# Altium footprint library PinHeader.PcbLib: 118 footprints (part 5 of 8)
Each footprint in its own frame and in the unit in brackets; x right, y up, seen from the top. Pads: shape width x height; smd on the part's side, far side on the other; paste and mask are expansions set on the pad; w line width, h text height; cw(c..) or ccw(c..) is an arc to the next point about the centre after c.
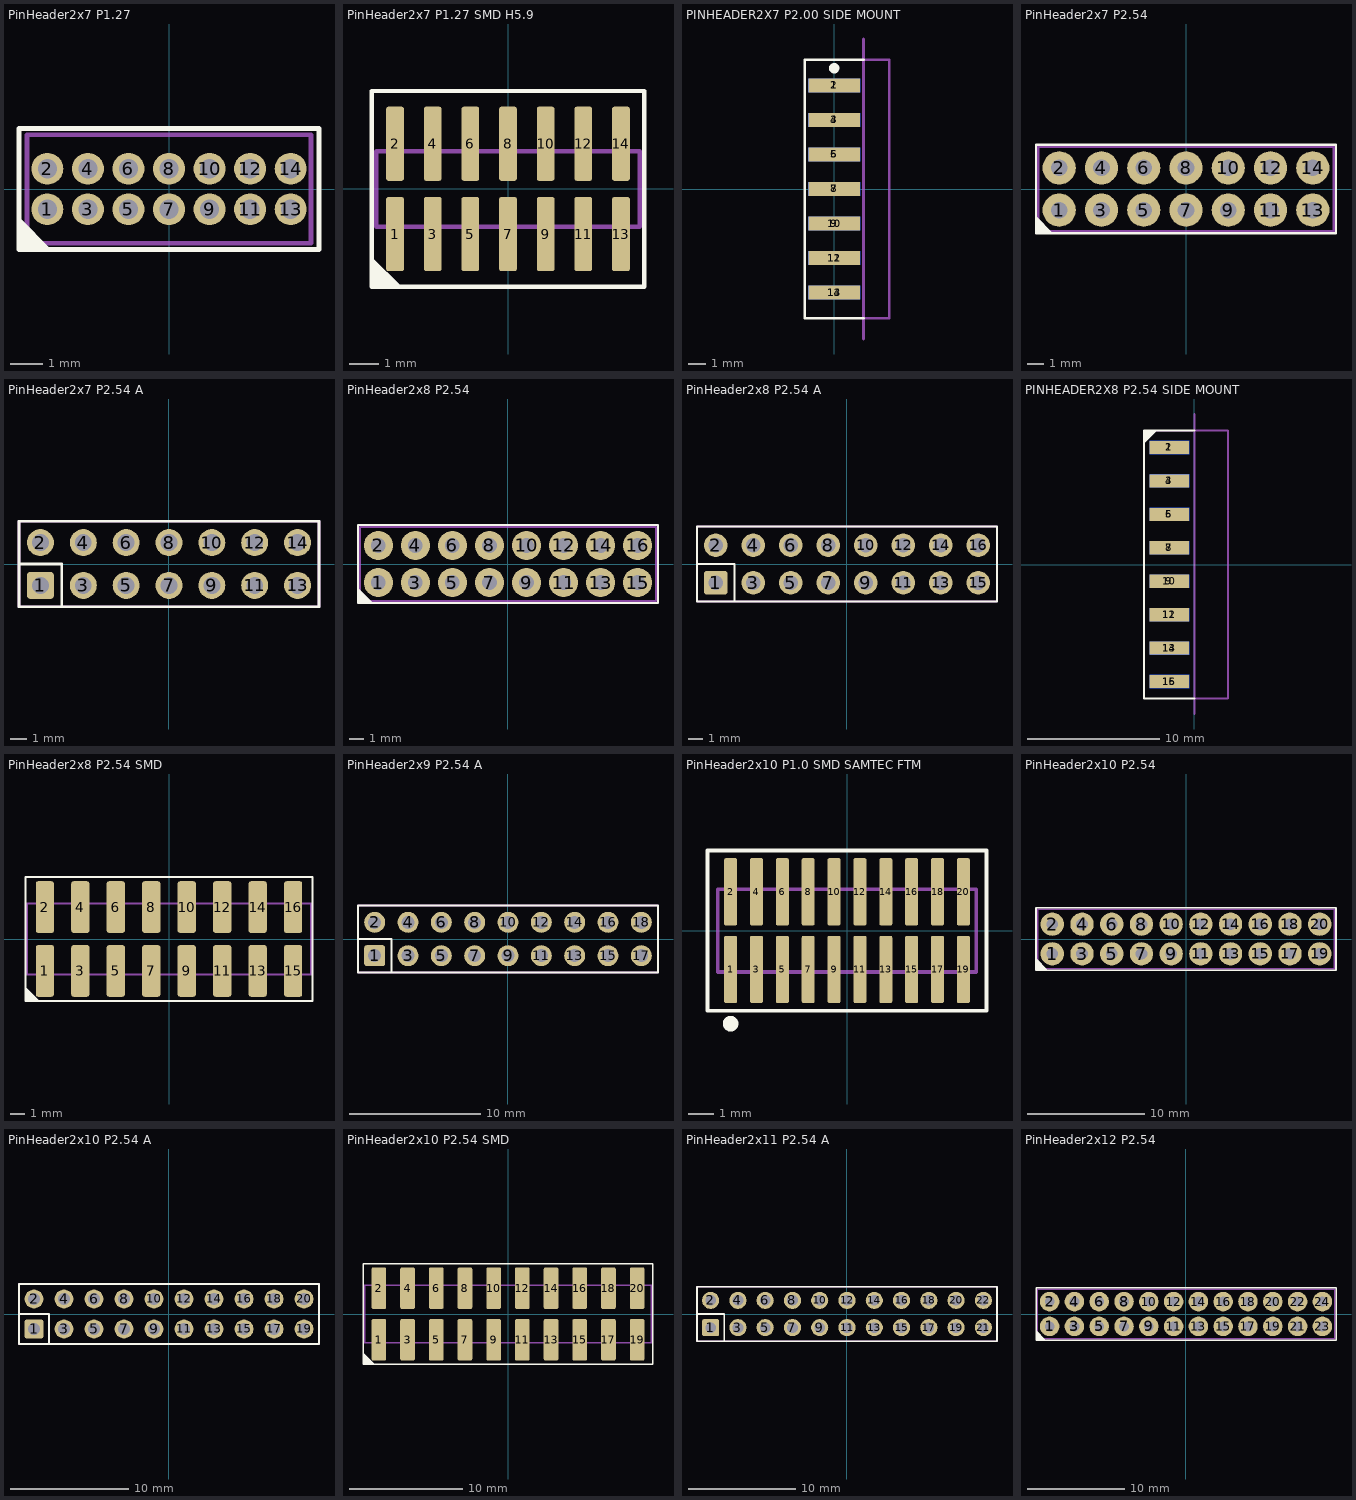
[diagram p4: the footprints below, top view; thin cyan lines are the x and y axes]

## PinHeader2x7 P1.27 [mm] "Plug connector"
height 5.3
pads (14):
  round 1 hole 0.6: 1(-3.81,-0.635) 2(-3.81,0.635) 3(-2.54,-0.635) 4(-2.54,0.635) 5(-1.27,-0.635) 6(-1.27,0.635) 7(0,-0.635) 8(0,0.635) 9(1.27,-0.635) 10(1.27,0.635) 11(2.54,-0.635) 12(2.54,0.635) 13(3.81,-0.635) 14(3.81,0.635)
Top Overlay:
  region: -4.7,-1.9 -4.7,-0.884 -3.684,-1.9
  lines w0.15: -4.6,-1.9 -4.635,-1.9 -4.7,-1.9 ; -4.7,-1.9 -4.7,1.5 -4.7,1.9 4.7,1.9 4.7,-1.9 -4.7,-1.9
Mechanical 13:
  lines w0.15: -4.445,-1.7 4.445,-1.7 4.445,1.7 -4.445,1.7 -4.445,-1.7
3D body "62201421121 (rev1).stp": height 5.31, standoff -2.29, extent -4.445,-1.7 4.445,1.7

## PinHeader2x7 P1.27 SMD H5.9 [mm] "Plug connector"
height 5.9
pads (14):
  rrect25% 0.6x2.5 smd: 1(-3.81,-1.524) 2(-3.81,1.524) 3(-2.54,-1.524) 4(-2.54,1.524) 5(-1.27,-1.524) 6(-1.27,1.524) 7(0,-1.524) 8(0,1.524) 9(1.27,-1.524) 10(1.27,1.524) 11(2.54,-1.524) 12(2.54,1.524) 13(3.81,-1.524) 14(3.81,1.524)
Top Overlay:
  region: -4.608,-3.308 -4.608,-2.292 -3.592,-3.308
  lines w0.15: -4.6,-3.302 -4.6,3.302 4.6,3.302 4.6,-3.302 -4.6,-3.302
Mechanical 13:
  lines w0.15: -4.445,-1.27 4.445,-1.27 4.445,1.27 -4.445,1.27 -4.445,-1.27
3D body: height 0.4, standoff 0, extent 3.61,0.435 4.01,2.54
3D body: height 5.9, standoff 0, extent 3.61,0.435 4.01,0.835
3D body: height 0.4, standoff 0, extent -4.01,0.435 -3.61,2.54
3D body: height 5.9, standoff 0, extent -4.01,0.435 -3.61,0.835
3D body: height 0.4, standoff 0, extent 3.61,-2.54 4.01,-0.435
3D body: height 5.9, standoff 0, extent 3.61,-0.835 4.01,-0.435
3D body: height 0.4, standoff 0, extent -4.01,-2.54 -3.61,-0.435
3D body: height 5.9, standoff 0, extent -4.01,-0.835 -3.61,-0.435
3D body: height 5.9, standoff 0, extent -2.74,0.435 -2.34,0.835
3D body: height 0.4, standoff 0, extent -2.74,0.435 -2.34,2.54
3D body: height 5.9, standoff 0, extent -1.47,0.435 -1.07,0.835
3D body: height 0.4, standoff 0, extent -1.47,0.435 -1.07,2.54
3D body: height 5.9, standoff 0, extent -0.2,0.435 0.2,0.835
3D body: height 0.4, standoff 0, extent -0.2,0.435 0.2,2.54
3D body: height 5.9, standoff 0, extent 1.07,0.435 1.47,0.835
3D body: height 0.4, standoff 0, extent 1.07,0.435 1.47,2.54
3D body: height 5.9, standoff 0, extent 2.34,0.435 2.74,0.835
3D body: height 0.4, standoff 0, extent 2.34,0.435 2.74,2.54
3D body: height 5.9, standoff 0, extent 2.34,-0.835 2.74,-0.435
3D body: height 0.4, standoff 0, extent 2.34,-2.54 2.74,-0.435
3D body: height 5.9, standoff 0, extent 1.07,-0.835 1.47,-0.435
3D body: height 0.4, standoff 0, extent 1.07,-2.54 1.47,-0.435
3D body: height 5.9, standoff 0, extent -2.74,-0.835 -2.34,-0.435
3D body: height 0.4, standoff 0, extent -2.74,-2.54 -2.34,-0.435
3D body: height 5.9, standoff 0, extent -1.47,-0.835 -1.07,-0.435
3D body: height 0.4, standoff 0, extent -1.47,-2.54 -1.07,-0.435
3D body: height 0.4, standoff 0, extent -0.2,-2.54 0.2,-0.435
3D body: height 5.9, standoff 0, extent -0.2,-0.835 0.2,-0.435
3D body: height 2.92, standoff 0.4, extent -4.445,-1.27 4.445,1.27

## PINHEADER2X7 P2.00 SIDE MOUNT [mm] "Plug connector Mounted on PCB side"
height 2
pads (14):
  rect 3x0.8 smd: 1(0,6) 3(0,4) 5(0,2) 7(0,0) 9(0,-2) 11(0,-4) 13(0,-6)
  rect 3x0.8 smd far side: 2(0,6) 4(0,4) 6(0,2) 8(0,0) 10(0,-2) 12(0,-4) 14(0,-6)
Top Overlay:
  circle w0.3: c0,7 r0.15
  lines w0.152: 1.7,-7.5 -1.71,-7.5 -1.71,7.5 1.7,7.5
Bottom Overlay:
  lines w0.152: 1.7,-7.5 -1.71,-7.5 -1.71,7.5 1.7,7.5
Mechanical 1:
  lines w0.15: 1.7,-8.694 1.7,-7.5 ; 1.7,7.5 1.7,8.694
Mechanical 13:
  lines w0.15: 1.7,-7.5 1.7,7.5 3.2,7.5 3.2,-7.5 1.7,-7.5
Mechanical 14:
  lines w0.15: 1.7,-7.5 3.2,-7.5 3.2,7.5 1.7,7.5 1.7,-7.5
Mechanical 15:
  lines w0.05: 1.7,-7.5 -1.71,-7.5 -1.71,7.5 1.7,7.5
3D body: height 0.5, standoff 0, extent -1.3,-6.259 6.7,-5.741
3D body: height 0.5, standoff 0, extent -1.3,-4.259 6.7,-3.741
3D body: height 1.75, standoff -1, extent 1.7,-7.5 3.2,7.5
3D body: height 0.5, standoff 0, extent -1.3,5.741 6.7,6.259
3D body: height 0.5, standoff 0, extent -1.3,3.741 6.7,4.259
3D body: height 0.5, standoff 0, extent -1.3,1.741 6.7,2.259
3D body: height 0.5, standoff 0, extent -1.3,-0.259 6.7,0.259
3D body: height 0.5, standoff 0, extent -1.3,-2.259 6.7,-1.741
3D body: height 0.5, standoff 0, extent -1.3,-6.259 6.7,-5.741
3D body: height 0.5, standoff 0, extent -1.3,-4.259 6.7,-3.741
3D body: height 1.75, standoff -1, extent 1.7,-7.5 3.2,7.5
3D body: height 0.5, standoff 0, extent -1.3,5.741 6.7,6.259
3D body: height 0.5, standoff 0, extent -1.3,3.741 6.7,4.259
3D body: height 0.5, standoff 0, extent -1.3,1.741 6.7,2.259
3D body: height 0.5, standoff 0, extent -1.3,-0.259 6.7,0.259
3D body: height 0.5, standoff 0, extent -1.3,-2.259 6.7,-1.741

## PinHeader2x7 P2.54 [mm] "Plug connector"
height 8.5
pads (14):
  round 2 hole 1: 1(-7.62,-1.27) 2(-7.62,1.27) 3(-5.08,-1.27) 4(-5.08,1.27) 5(-2.54,-1.27) 6(-2.54,1.27) 7(0,-1.27) 8(0,1.27) 9(2.54,-1.27) 10(2.54,1.27) 11(5.08,-1.27) 12(5.08,1.27) 13(7.62,-1.27) 14(7.62,1.27)
Top Overlay:
  region: -9.017,-2.667 -9.017,-1.651 -8.001,-2.667
  lines w0.15: -9.017,-2.667 9.017,-2.667 9.017,2.667 -9.017,2.667 -9.017,-2.667
Mechanical 13:
  lines w0.15: -8.89,-2.54 -8.89,2.54 8.89,2.54 8.89,-2.54 -8.89,-2.54
3D body: height 8.5, standoff -2.5, extent 7.24,-1.65 8.001,-0.89
3D body: height 8.5, standoff -2.5, extent -8,-1.65 -7.24,-0.89
3D body: height 8.5, standoff -2.5, extent 2.16,-1.65 2.921,-0.89
3D body: height 8.5, standoff -2.5, extent -5.46,-1.65 -4.7,-0.89
3D body: height 8.5, standoff -2.5, extent -2.92,-1.65 -2.159,-0.89
3D body: height 8.5, standoff -2.5, extent -0.38,-1.65 0.381,-0.89
3D body: height 8.5, standoff -2.5, extent 4.7,-1.65 5.461,-0.89
3D body: height 8.5, standoff -2.5, extent 4.7,0.89 5.461,1.65
3D body: height 8.5, standoff -2.5, extent -0.38,0.89 0.381,1.65
3D body: height 8.5, standoff -2.5, extent -2.92,0.89 -2.159,1.65
3D body: height 8.5, standoff -2.5, extent -5.46,0.89 -4.7,1.65
3D body: height 8.5, standoff -2.5, extent 2.16,0.89 2.921,1.65
3D body: height 8.5, standoff -2.5, extent -8,0.89 -7.24,1.65
3D body: height 2.54, standoff 0, extent -8.89,-2.54 8.89,2.54
3D body: height 8.5, standoff -2.5, extent 7.24,0.89 8.001,1.65

## PinHeader2x7 P2.54 A [mm] "Plug connector"
height 8.5
pads (14):
  rrect25% 1.6x1.6 hole 1: 1(-7.62,-1.27)
  round 1.6 hole 1: 2(-7.62,1.27) 3(-5.08,-1.27) 4(-5.08,1.27) 5(-2.54,-1.27) 6(-2.54,1.27) 7(0,-1.27) 8(0,1.27) 9(2.54,-1.27) 10(2.54,1.27) 11(5.08,-1.27) 12(5.08,1.27) 13(7.62,-1.27) 14(7.62,1.27)
Top Overlay:
  lines w0.15: -8.89,0 -6.35,0 -6.35,-2.54 ; -8.89,-2.54 -8.89,2.54 8.89,2.54 8.89,-2.54 -8.89,-2.54
Mechanical 13:
  lines w0.15: -8.89,-2.54 8.89,-2.54 8.89,2.54 -8.89,2.54 -8.89,-2.54
3D body: height 2.5, standoff 0.1, extent -8.89,-2.54 8.89,2.54
3D body: height 8.5, standoff 2.6, extent -7.938,-1.587 7.938,1.587

## PinHeader2x8 P2.54 [mm] "Plug connector"
height 8.5
pads (16):
  round 2 hole 1: 1(-8.89,-1.27) 2(-8.89,1.27) 3(-6.35,-1.27) 4(-6.35,1.27) 5(-3.81,-1.27) 6(-3.81,1.27) 7(-1.27,-1.27) 8(-1.27,1.27) 9(1.27,-1.27) 10(1.27,1.27) 11(3.81,-1.27) 12(3.81,1.27) 13(6.35,-1.27) 14(6.35,1.27) 15(8.89,-1.27) 16(8.89,1.27)
Top Overlay:
  region: -10.287,-2.667 -10.287,-1.651 -9.271,-2.667
  lines w0.15: -10.287,-2.667 10.287,-2.667 10.287,2.667 -10.287,2.667 -10.287,-2.667
Mechanical 13:
  lines w0.15: -10.16,-2.54 -10.16,2.54 10.16,2.54 10.16,-2.54 -10.16,-2.54
3D body: height 8.5, standoff -2.5, extent 8.51,-1.65 9.271,-0.889
3D body: height 8.5, standoff -2.5, extent 5.97,-1.65 6.731,-0.889
3D body: height 8.5, standoff -2.5, extent -9.27,-1.65 -8.509,-0.889
3D body: height 8.5, standoff -2.5, extent 0.89,-1.65 1.651,-0.889
3D body: height 8.5, standoff -2.5, extent -6.73,-1.65 -5.969,-0.889
3D body: height 8.5, standoff -2.5, extent -4.19,-1.65 -3.429,-0.889
3D body: height 8.5, standoff -2.5, extent -1.65,-1.65 -0.889,-0.889
3D body: height 8.5, standoff -2.5, extent 3.43,-1.65 4.191,-0.889
3D body: height 8.5, standoff -2.5, extent 3.43,0.89 4.191,1.651
3D body: height 8.5, standoff -2.5, extent -1.65,0.89 -0.889,1.651
3D body: height 8.5, standoff -2.5, extent -4.19,0.89 -3.429,1.651
3D body: height 8.5, standoff -2.5, extent -6.73,0.89 -5.969,1.651
3D body: height 8.5, standoff -2.5, extent 0.89,0.89 1.651,1.651
3D body: height 8.5, standoff -2.5, extent -9.27,0.89 -8.509,1.651
3D body: height 2.54, standoff 0, extent -10.16,-2.54 10.16,2.54
3D body: height 8.5, standoff -2.5, extent 5.97,0.89 6.731,1.651
3D body: height 8.5, standoff -2.5, extent 8.51,0.89 9.271,1.651

## PinHeader2x8 P2.54 A [mm] "Plug connector"
height 8.5
pads (16):
  rrect25% 1.6x1.6 hole 1: 1(-8.89,-1.27)
  round 1.6 hole 1: 2(-8.89,1.27) 3(-6.35,-1.27) 4(-6.35,1.27) 5(-3.81,-1.27) 6(-3.81,1.27) 7(-1.27,-1.27) 8(-1.27,1.27) 9(1.27,-1.27) 10(1.27,1.27) 11(3.81,-1.27) 12(3.81,1.27) 13(6.35,-1.27) 14(6.35,1.27) 15(8.89,-1.27) 16(8.89,1.27)
Top Overlay:
  lines w0.15: -10.16,0 -7.62,0 -7.62,-2.54 ; -10.16,-2.54 -10.16,2.54 10.16,2.54 10.16,-2.54 -10.16,-2.54
Mechanical 13:
  lines w0.15: -10.16,-2.54 10.16,-2.54 10.16,2.54 -10.16,2.54 -10.16,-2.54
3D body: height 2.5, standoff 0.1, extent -10.16,-2.54 10.16,2.54
3D body: height 8.5, standoff 2.6, extent -9.207,-1.587 9.207,1.587

## PINHEADER2X8 P2.54 SIDE MOUNT [mm] "Plug connector Mounted on PCB side"
height 2.54
pads (16):
  rect 3x1 smd: 1(-1.905,8.89) 3(-1.905,6.35) 5(-1.905,3.81) 7(-1.905,1.27) 9(-1.905,-1.27) 11(-1.905,-3.81) 13(-1.905,-6.35) 15(-1.905,-8.89)
  rect 3x1 smd far side: 2(-1.905,8.89) 4(-1.905,6.35) 6(-1.905,3.81) 8(-1.905,1.27) 10(-1.905,-1.27) 12(-1.905,-3.81) 14(-1.905,-6.35) 16(-1.905,-8.89)
Top Overlay:
  region: -3.81,10.16 -3.81,9.207 -2.857,10.16
  lines w0.152: 0,-10.16 -3.81,-10.16 -3.81,10.16 0,10.16
Bottom Overlay:
  lines w0.152: 0,-10.16 -3.81,-10.16 -3.81,10.16 0,10.16
Mechanical 1:
  lines w0.15: 0,-11.354 0,-10.16 ; 0,10.236 0,11.43
Mechanical 13:
  lines w0.15: 0,-10.16 2.54,-10.16 2.54,10.16 0,10.16 0,-10.16
Mechanical 14:
  lines w0.15: 0,-10.16 0,10.16 2.54,10.16 2.54,-10.16 0,-10.16
Mechanical 15:
  lines w0.05: 0,-10.16 -3.81,-10.16 -3.81,10.16 0,10.16
3D body: height 1.75, standoff -1, extent 0,-10.16 2.54,10.16
3D body: height 0.83, standoff 0.2, extent -2.857,8.572 8.572,9.207
3D body: height 0.83, standoff 0.2, extent -2.857,6.032 8.572,6.667
3D body: height 0.83, standoff 0.2, extent -2.857,3.492 8.572,4.127
3D body: height 0.83, standoff 0.2, extent -2.857,0.953 8.572,1.587
3D body: height 0.83, standoff 0.2, extent -2.857,-1.587 8.572,-0.953
3D body: height 0.83, standoff 0.2, extent -2.857,-4.127 8.572,-3.492
3D body: height 0.83, standoff 0.2, extent -2.857,-6.667 8.572,-6.032
3D body: height 0.83, standoff 0.2, extent -2.857,-9.207 8.572,-8.572
3D body: height 0.83, standoff 0.2, extent -2.857,8.572 8.572,9.207
3D body: height 1.75, standoff -1, extent 0,-10.16 2.54,10.16
3D body: height 0.83, standoff 0.2, extent -2.857,6.032 8.572,6.667
3D body: height 0.83, standoff 0.2, extent -2.857,0.953 8.572,1.587
3D body: height 0.83, standoff 0.2, extent -2.857,3.492 8.572,4.127
3D body: height 0.83, standoff 0.2, extent -2.857,-4.127 8.572,-3.492
3D body: height 0.83, standoff 0.2, extent -2.857,-1.587 8.572,-0.953
3D body: height 0.83, standoff 0.2, extent -2.857,-6.667 8.572,-6.032
3D body: height 0.83, standoff 0.2, extent -2.857,-9.207 8.572,-8.572

## PinHeader2x8 P2.54 SMD [mm] "Plug connector"
height 8.5
pads (16):
  rrect25% 1.3x3.7 smd: 1(-8.89,-2.286) 2(-8.89,2.286) 3(-6.35,-2.286) 4(-6.35,2.286) 5(-3.81,-2.286) 6(-3.81,2.286) 7(-1.27,-2.286) 8(-1.27,2.286) 9(1.27,-2.286) 10(1.27,2.286) 11(3.81,-2.286) 12(3.81,2.286) 13(6.35,-2.286) 14(6.35,2.286) 15(8.89,-2.286) 16(8.89,2.286)
Top Overlay:
  region: -10.287,-4.445 -10.287,-3.429 -9.271,-4.445
  lines w0.15: -10.287,-4.445 10.287,-4.445 10.287,4.445 -10.287,4.445 -10.287,-4.445
Mechanical 13:
  lines w0.15: -10.16,-2.54 -10.16,2.54 10.16,2.54 10.16,-2.54 -10.16,-2.54
3D body: height 8.5, standoff 0, extent 3.43,-1.65 4.191,-0.889
3D body: height 8.5, standoff 0, extent -1.65,-1.65 -0.889,-0.889
3D body: height 8.5, standoff 0, extent -4.19,-1.65 -3.429,-0.889
3D body: height 8.5, standoff 0, extent -6.73,-1.65 -5.969,-0.889
3D body: height 8.5, standoff 0, extent 0.89,-1.65 1.651,-0.889
3D body: height 8.5, standoff 0, extent -9.27,-1.65 -8.509,-0.889
3D body: height 3.56, standoff 1.27, extent -10.16,-2.54 10.16,2.54
3D body: height 8.5, standoff 0, extent 5.97,-1.65 6.731,-0.889
3D body: height 8.5, standoff 0, extent 8.51,-1.65 9.271,-0.889
3D body: height 0.76, standoff 0, extent -9.27,-3.429 -8.509,-0.889
3D body: height 0.76, standoff 0, extent -6.73,-3.429 -5.969,-0.889
3D body: height 0.76, standoff 0, extent -4.19,-3.429 -3.429,-0.889
3D body: height 0.76, standoff 0, extent -1.65,-3.429 -0.889,-0.889
3D body: height 0.76, standoff 0, extent 0.89,-3.429 1.651,-0.889
3D body: height 0.76, standoff 0, extent 3.43,-3.429 4.191,-0.889
3D body: height 0.76, standoff 0, extent 5.97,-3.429 6.731,-0.889
3D body: height 0.76, standoff 0, extent 8.51,-3.429 9.271,-0.889
3D body: height 0.76, standoff 0, extent -9.271,0.89 -8.51,3.429
3D body: height 0.76, standoff 0, extent -6.731,0.89 -5.97,3.429
3D body: height 0.76, standoff 0, extent -4.19,0.89 -3.429,3.429
3D body: height 0.76, standoff 0, extent -1.65,0.89 -0.889,3.429
3D body: height 0.76, standoff 0, extent 0.89,0.89 1.651,3.429
3D body: height 0.76, standoff 0, extent 3.43,0.89 4.191,3.429
3D body: height 0.76, standoff 0, extent 5.97,0.89 6.731,3.429
3D body: height 0.76, standoff 0, extent 8.51,0.89 9.271,3.429
3D body: height 8.5, standoff 0, extent 3.43,0.89 4.191,1.651
3D body: height 8.5, standoff 0, extent -1.65,0.89 -0.889,1.651
3D body: height 8.5, standoff 0, extent -4.19,0.89 -3.429,1.651
3D body: height 8.5, standoff 0, extent -6.731,0.89 -5.97,1.651
3D body: height 8.5, standoff 0, extent 0.89,0.89 1.651,1.651
3D body: height 8.5, standoff 0, extent -9.271,0.89 -8.51,1.651
3D body: height 8.5, standoff 0, extent 5.97,0.89 6.731,1.651
3D body: height 8.5, standoff 0, extent 8.51,0.89 9.271,1.651

## PinHeader2x9 P2.54 A [mm] "Plug connector"
height 8.5
pads (18):
  rrect25% 1.6x1.6 hole 1: 1(-10.16,-1.27)
  round 1.6 hole 1: 2(-10.16,1.27) 3(-7.62,-1.27) 4(-7.62,1.27) 5(-5.08,-1.27) 6(-5.08,1.27) 7(-2.54,-1.27) 8(-2.54,1.27) 9(0,-1.27) 10(0,1.27) 11(2.54,-1.27) 12(2.54,1.27) 13(5.08,-1.27) 14(5.08,1.27) 15(7.62,-1.27) 16(7.62,1.27) 17(10.16,-1.27) 18(10.16,1.27)
Top Overlay:
  lines w0.15: -11.43,0 -8.89,0 -8.89,-2.54 ; -11.43,-2.54 11.43,-2.54 11.43,2.54 -11.43,2.54 -11.43,-2.54
Mechanical 13:
  lines w0.15: -11.43,-2.54 -11.43,2.54 11.43,2.54 11.43,-2.54 -11.43,-2.54
3D body: height 8.5, standoff 2.6, extent -10.478,-1.588 10.477,1.587
3D body: height 2.5, standoff 0.1, extent -11.43,-2.54 11.43,2.54

## PinHeader2x10 P1.0 SMD SAMTEC FTM [mm] "Plug connector"
height 3.7
pads (20):
  rrect25% 0.5x2.6 smd: 1(-4.5,-1.5) 2(-4.5,1.5) 3(-3.5,-1.5) 4(-3.5,1.5) 5(-2.5,-1.5) 6(-2.5,1.5) 7(-1.5,-1.5) 8(-1.5,1.5) 9(-0.5,-1.5) 10(-0.5,1.5) 11(0.5,-1.5) 12(0.5,1.5) 13(1.5,-1.5) 14(1.5,1.5) 15(2.5,-1.5) 16(2.5,1.5) 17(3.5,-1.5) 18(3.5,1.5) 19(4.5,-1.5) 20(4.5,1.5)
Top Overlay:
  circle w0.3: c-4.5,-3.6 r0.15
  lines w0.15: -5.4,-3.1 5.4,-3.1 5.4,3.1 -5.4,3.1 -5.4,-3.1
Mechanical 13:
  lines w0.15: -5,-1.6 -5,1.6 5,1.6 5,-1.6 -5,-1.6
3D body: height 3.7, standoff 1.8, extent -4.65,-0.65 -4.35,-0.35
3D body: height 0.3, standoff 0, extent -4.65,-2.6 -4.35,-0.35
3D body: height 0.3, standoff 0, extent -3.65,-2.6 -3.35,-0.35
3D body: height 3.7, standoff 1.8, extent -3.65,-0.65 -3.35,-0.35
3D body: height 0.3, standoff 0, extent -2.65,-2.6 -2.35,-0.35
3D body: height 3.7, standoff 1.8, extent -2.65,-0.65 -2.35,-0.35
3D body: height 0.3, standoff 0, extent -1.65,-2.6 -1.35,-0.35
3D body: height 3.7, standoff 1.8, extent -1.65,-0.65 -1.35,-0.35
3D body: height 0.3, standoff 0, extent 0.35,-2.6 0.65,-0.35
3D body: height 3.7, standoff 1.8, extent 0.35,-0.65 0.65,-0.35
3D body: height 0.3, standoff 0, extent 1.35,-2.6 1.65,-0.35
3D body: height 3.7, standoff 1.8, extent 1.35,-0.65 1.65,-0.35
3D body: height 0.3, standoff 0, extent 2.35,-2.6 2.65,-0.35
3D body: height 3.7, standoff 1.8, extent 2.35,-0.65 2.65,-0.35
3D body: height 0.3, standoff 0, extent 3.35,-2.6 3.65,-0.35
3D body: height 3.7, standoff 1.8, extent 3.35,-0.65 3.65,-0.35
3D body: height 0.3, standoff 0, extent 4.35,-2.6 4.65,-0.35
3D body: height 3.7, standoff 1.8, extent 4.35,-0.65 4.65,-0.35
3D body: height 3.7, standoff 1.8, extent -4.65,0.35 -4.35,0.65
3D body: height 0.3, standoff 0, extent -4.65,0.35 -4.35,2.6
3D body: height 3.7, standoff 1.8, extent -3.65,0.35 -3.35,0.65
3D body: height 0.3, standoff 0, extent -3.65,0.35 -3.35,2.6
3D body: height 3.7, standoff 1.8, extent -2.65,0.35 -2.35,0.65
3D body: height 0.3, standoff 0, extent -2.65,0.35 -2.35,2.6
3D body: height 3.7, standoff 1.8, extent -1.65,0.35 -1.35,0.65
3D body: height 0.3, standoff 0, extent -1.65,0.35 -1.35,2.6
3D body: height 3.7, standoff 1.8, extent -0.65,0.35 -0.35,0.65
3D body: height 0.3, standoff 0, extent -0.65,0.35 -0.35,2.6
3D body: height 3.7, standoff 1.8, extent 1.35,0.35 1.65,0.65
3D body: height 0.3, standoff 0, extent 1.35,0.35 1.65,2.6
3D body: height 3.7, standoff 1.8, extent 2.35,0.35 2.65,0.65
3D body: height 0.3, standoff 0, extent 2.35,0.35 2.65,2.6
3D body: height 3.7, standoff 1.8, extent 3.35,0.35 3.65,0.65
3D body: height 0.3, standoff 0, extent 3.35,0.35 3.65,2.6
3D body: height 0.3, standoff 0, extent 4.35,0.35 4.65,2.6
3D body: height 3.7, standoff 1.8, extent 4.35,0.35 4.65,0.65
3D body: height 0.3, standoff 0, extent -0.65,-2.6 -0.35,-0.35
3D body: height 3.7, standoff 1.8, extent -0.65,-0.65 -0.35,-0.35
3D body: height 0.3, standoff 0, extent 0.35,0.35 0.65,2.6
3D body: height 3.7, standoff 1.8, extent 0.35,0.35 0.65,0.65
3D body: height 1.8, standoff 0.3, extent -5,-1.6 5,1.6

## PinHeader2x10 P2.54 [mm] "Plug connector"
height 8.5
pads (20):
  round 2 hole 1: 1(-11.43,-1.27) 2(-11.43,1.27) 3(-8.89,-1.27) 4(-8.89,1.27) 5(-6.35,-1.27) 6(-6.35,1.27) 7(-3.81,-1.27) 8(-3.81,1.27) 9(-1.27,-1.27) 10(-1.27,1.27) 11(1.27,-1.27) 12(1.27,1.27) 13(3.81,-1.27) 14(3.81,1.27) 15(6.35,-1.27) 16(6.35,1.27) 17(8.89,-1.27) 18(8.89,1.27) 19(11.43,-1.27) 20(11.43,1.27)
Top Overlay:
  region: -12.827,-2.667 -12.827,-1.651 -11.811,-2.667
  lines w0.15: -12.827,-2.667 -12.827,2.667 12.827,2.667 12.827,-2.667 -12.827,-2.667
Mechanical 13:
  lines w0.15: -12.7,-2.54 12.7,-2.54 12.7,2.54 -12.7,2.54 -12.7,-2.54
3D body: height 8.5, standoff -2.5, extent 8.51,0.89 9.271,1.65
3D body: height 8.5, standoff -2.5, extent 11.05,0.89 11.811,1.65
3D body: height 8.5, standoff -2.5, extent 5.97,0.89 6.731,1.65
3D body: height 8.5, standoff -2.5, extent 3.43,0.89 4.191,1.65
3D body: height 2.54, standoff 0, extent -12.7,-2.54 12.7,2.54
3D body: height 8.5, standoff -2.5, extent -11.81,0.89 -11.05,1.65
3D body: height 8.5, standoff -2.5, extent -1.65,0.89 -0.889,1.65
3D body: height 8.5, standoff -2.5, extent -9.27,0.89 -8.51,1.65
3D body: height 8.5, standoff -2.5, extent -6.73,0.89 -5.969,1.65
3D body: height 8.5, standoff -2.5, extent -4.19,0.89 -3.429,1.65
3D body: height 8.5, standoff -2.5, extent 0.89,0.89 1.651,1.65
3D body: height 8.5, standoff -2.5, extent 0.89,-1.65 1.651,-0.89
3D body: height 8.5, standoff -2.5, extent -4.19,-1.65 -3.429,-0.89
3D body: height 8.5, standoff -2.5, extent -6.73,-1.65 -5.969,-0.89
3D body: height 8.5, standoff -2.5, extent -9.27,-1.65 -8.51,-0.89
3D body: height 8.5, standoff -2.5, extent -1.65,-1.65 -0.889,-0.89
3D body: height 8.5, standoff -2.5, extent -11.81,-1.65 -11.05,-0.89
3D body: height 8.5, standoff -2.5, extent 3.43,-1.65 4.191,-0.89
3D body: height 8.5, standoff -2.5, extent 5.97,-1.65 6.731,-0.89
3D body: height 8.5, standoff -2.5, extent 11.05,-1.65 11.811,-0.89
3D body: height 8.5, standoff -2.5, extent 8.51,-1.65 9.271,-0.89

## PinHeader2x10 P2.54 A [mm] "Plug connector"
height 8.5
pads (20):
  rrect25% 1.6x1.6 hole 1: 1(-11.43,-1.27)
  round 1.6 hole 1: 2(-11.43,1.27) 3(-8.89,-1.27) 4(-8.89,1.27) 5(-6.35,-1.27) 6(-6.35,1.27) 7(-3.81,-1.27) 8(-3.81,1.27) 9(-1.27,-1.27) 10(-1.27,1.27) 11(1.27,-1.27) 12(1.27,1.27) 13(3.81,-1.27) 14(3.81,1.27) 15(6.35,-1.27) 16(6.35,1.27) 17(8.89,-1.27) 18(8.89,1.27) 19(11.43,-1.27) 20(11.43,1.27)
Top Overlay:
  lines w0.15: -12.7,0 -10.16,0 -10.16,-2.54 ; -12.7,-2.54 12.7,-2.54 12.7,2.54 -12.7,2.54 -12.7,-2.54
Mechanical 13:
  lines w0.15: -12.7,-2.54 -12.7,2.54 12.7,2.54 12.7,-2.54 -12.7,-2.54
3D body: height 8.5, standoff 2.6, extent -11.747,-1.587 11.747,1.587
3D body: height 2.5, standoff 0.1, extent -12.7,-2.54 12.7,2.54

## PinHeader2x10 P2.54 SMD [mm] "Plug connector"
height 8.5
pads (20):
  rrect25% 1.3x3.7 smd: 1(-11.43,-2.286) 2(-11.43,2.286) 3(-8.89,-2.286) 4(-8.89,2.286) 5(-6.35,-2.286) 6(-6.35,2.286) 7(-3.81,-2.286) 8(-3.81,2.286) 9(-1.27,-2.286) 10(-1.27,2.286) 11(1.27,-2.286) 12(1.27,2.286) 13(3.81,-2.286) 14(3.81,2.286) 15(6.35,-2.286) 16(6.35,2.286) 17(8.89,-2.286) 18(8.89,2.286) 19(11.43,-2.286) 20(11.43,2.286)
Top Overlay:
  region: -12.827,-4.445 -12.827,-3.429 -11.811,-4.445
  lines w0.15: -12.827,-4.445 12.827,-4.445 12.827,4.445 -12.827,4.445 -12.827,-4.445
Mechanical 13:
  lines w0.15: -12.7,-2.54 -12.7,2.54 12.7,2.54 12.7,-2.54 -12.7,-2.54
3D body: height 8.5, standoff 0, extent 0.89,-1.65 1.651,-0.889
3D body: height 8.5, standoff 0, extent -4.19,-1.65 -3.429,-0.889
3D body: height 8.5, standoff 0, extent -6.73,-1.65 -5.969,-0.889
3D body: height 8.5, standoff 0, extent -9.27,-1.65 -8.509,-0.889
3D body: height 8.5, standoff 0, extent -1.65,-1.65 -0.889,-0.889
3D body: height 8.5, standoff 0, extent -11.81,-1.65 -11.049,-0.889
3D body: height 3.56, standoff 1.27, extent -12.7,-2.54 12.7,2.54
3D body: height 8.5, standoff 0, extent 3.43,-1.65 4.191,-0.889
3D body: height 8.5, standoff 0, extent 5.97,-1.65 6.731,-0.889
3D body: height 8.5, standoff 0, extent 11.05,-1.65 11.811,-0.889
3D body: height 8.5, standoff 0, extent 8.51,-1.65 9.271,-0.889
3D body: height 0.76, standoff 0, extent -11.81,-3.429 -11.049,-0.889
3D body: height 0.76, standoff 0, extent -9.27,-3.429 -8.509,-0.889
3D body: height 0.76, standoff 0, extent -6.73,-3.429 -5.969,-0.889
3D body: height 0.76, standoff 0, extent -4.19,-3.429 -3.429,-0.889
3D body: height 0.76, standoff 0, extent -1.65,-3.429 -0.889,-0.889
3D body: height 0.76, standoff 0, extent 0.89,-3.429 1.651,-0.889
3D body: height 0.76, standoff 0, extent 3.43,-3.429 4.191,-0.889
3D body: height 0.76, standoff 0, extent 5.97,-3.429 6.731,-0.889
3D body: height 0.76, standoff 0, extent 8.51,-3.429 9.271,-0.889
3D body: height 0.76, standoff 0, extent 11.05,-3.429 11.811,-0.889
3D body: height 0.76, standoff 0, extent -11.811,0.89 -11.05,3.429
3D body: height 0.76, standoff 0, extent -9.271,0.89 -8.51,3.429
3D body: height 0.76, standoff 0, extent -6.73,0.89 -5.969,3.429
3D body: height 0.76, standoff 0, extent -4.19,0.89 -3.429,3.429
3D body: height 0.76, standoff 0, extent -1.65,0.89 -0.889,3.429
3D body: height 0.76, standoff 0, extent 0.89,0.89 1.651,3.429
3D body: height 0.76, standoff 0, extent 3.43,0.89 4.191,3.429
3D body: height 0.76, standoff 0, extent 5.97,0.89 6.731,3.429
3D body: height 0.76, standoff 0, extent 8.51,0.89 9.271,3.429
3D body: height 0.76, standoff 0, extent 11.05,0.89 11.811,3.429
3D body: height 8.5, standoff 0, extent 0.89,0.89 1.651,1.651
3D body: height 8.5, standoff 0, extent -4.19,0.89 -3.429,1.651
3D body: height 8.5, standoff 0, extent -6.73,0.89 -5.969,1.651
3D body: height 8.5, standoff 0, extent -9.271,0.89 -8.51,1.651
3D body: height 8.5, standoff 0, extent -1.65,0.89 -0.889,1.651
3D body: height 8.5, standoff 0, extent -11.811,0.89 -11.05,1.651
3D body: height 8.5, standoff 0, extent 3.43,0.89 4.191,1.651
3D body: height 8.5, standoff 0, extent 5.97,0.89 6.731,1.651
3D body: height 8.5, standoff 0, extent 11.05,0.89 11.811,1.651
3D body: height 8.5, standoff 0, extent 8.51,0.89 9.271,1.651

## PinHeader2x11 P2.54 A [mm] "Plug connector"
height 8.5
pads (22):
  rrect25% 1.6x1.6 hole 1: 1(-12.7,-1.27)
  round 1.6 hole 1: 2(-12.7,1.27) 3(-10.16,-1.27) 4(-10.16,1.27) 5(-7.62,-1.27) 6(-7.62,1.27) 7(-5.08,-1.27) 8(-5.08,1.27) 9(-2.54,-1.27) 10(-2.54,1.27) 11(0,-1.27) 12(0,1.27) 13(2.54,-1.27) 14(2.54,1.27) 15(5.08,-1.27) 16(5.08,1.27) 17(7.62,-1.27) 18(7.62,1.27) 19(10.16,-1.27) 20(10.16,1.27) 21(12.7,-1.27) 22(12.7,1.27)
Top Overlay:
  lines w0.15: -13.97,0 -11.43,0 -11.43,-2.54 ; -13.97,-2.54 -13.97,2.54 13.97,2.54 13.97,-2.54 -13.97,-2.54
Mechanical 13:
  lines w0.15: -13.97,-2.54 13.97,-2.54 13.97,2.54 -13.97,2.54 -13.97,-2.54
3D body: height 2.5, standoff 0.1, extent -13.97,-2.54 13.97,2.54
3D body: height 8.5, standoff 2.6, extent -13.018,-1.588 13.018,1.587

## PinHeader2x12 P2.54 [mm] "Plug connector"
height 8.5
pads (24):
  round 2 hole 1: 1(-13.97,-1.27) 2(-13.97,1.27) 3(-11.43,-1.27) 4(-11.43,1.27) 5(-8.89,-1.27) 6(-8.89,1.27) 7(-6.35,-1.27) 8(-6.35,1.27) 9(-3.81,-1.27) 10(-3.81,1.27) 11(-1.27,-1.27) 12(-1.27,1.27) 13(1.27,-1.27) 14(1.27,1.27) 15(3.81,-1.27) 16(3.81,1.27) 17(6.35,-1.27) 18(6.35,1.27) 19(8.89,-1.27) 20(8.89,1.27) 21(11.43,-1.27) 22(11.43,1.27) 23(13.97,-1.27) 24(13.97,1.27)
Top Overlay:
  region: -15.367,-2.667 -15.367,-1.651 -14.351,-2.667
  lines w0.15: -15.367,-2.667 -15.367,2.667 15.367,2.667 15.367,-2.667 -15.367,-2.667
Mechanical 13:
  lines w0.15: -15.24,-2.54 15.24,-2.54 15.24,2.54 -15.24,2.54 -15.24,-2.54
3D body: height 8.5, standoff -2.5, extent 5.97,0.89 6.731,1.651
3D body: height 8.5, standoff -2.5, extent 8.51,0.89 9.271,1.651
3D body: height 8.5, standoff -2.5, extent 3.43,0.89 4.191,1.651
3D body: height 8.5, standoff -2.5, extent 0.89,0.89 1.651,1.651
3D body: height 8.5, standoff -2.5, extent -14.35,0.89 -13.589,1.651
3D body: height 8.5, standoff -2.5, extent -4.19,0.89 -3.429,1.651
3D body: height 8.5, standoff -2.5, extent -11.81,0.89 -11.049,1.651
3D body: height 8.5, standoff -2.5, extent -9.27,0.89 -8.509,1.651
3D body: height 8.5, standoff -2.5, extent -6.73,0.89 -5.969,1.651
3D body: height 8.5, standoff -2.5, extent -1.65,0.89 -0.889,1.651
3D body: height 8.5, standoff -2.5, extent 11.049,-1.65 11.81,-0.889
3D body: height 8.5, standoff -2.5, extent 13.589,-1.65 14.35,-0.889
3D body: height 8.5, standoff -2.5, extent -1.65,-1.65 -0.889,-0.889
3D body: height 8.5, standoff -2.5, extent -6.73,-1.65 -5.969,-0.889
3D body: height 8.5, standoff -2.5, extent -9.27,-1.65 -8.509,-0.889
3D body: height 8.5, standoff -2.5, extent -11.81,-1.65 -11.049,-0.889
3D body: height 8.5, standoff -2.5, extent -4.19,-1.65 -3.429,-0.889
3D body: height 8.5, standoff -2.5, extent -14.35,-1.65 -13.589,-0.889
3D body: height 8.5, standoff -2.5, extent 0.89,-1.65 1.651,-0.889
3D body: height 8.5, standoff -2.5, extent 3.43,-1.65 4.191,-0.889
3D body: height 8.5, standoff -2.5, extent 8.51,-1.65 9.271,-0.889
3D body: height 8.5, standoff -2.5, extent 5.97,-1.65 6.731,-0.889
3D body: height 8.5, standoff -2.5, extent 11.049,0.89 11.81,1.651
3D body: height 8.5, standoff -2.5, extent 13.589,0.89 14.35,1.651
3D body: height 2.54, standoff 0, extent -15.24,-2.54 15.24,2.54